# Altium footprint library WR-TBL_Rising Cage Clamp_10.16mm.PcbLib: 81 footprints (part 4 of 6)
Each footprint in its own frame and in the unit in brackets; x right, y up, seen from the top. Pads: shape width x height; smd on the part's side, far side on the other; paste and mask are expansions set on the pad; w line width, h text height; cw(c..) or ccw(c..) is an arc to the next point about the centre after c.
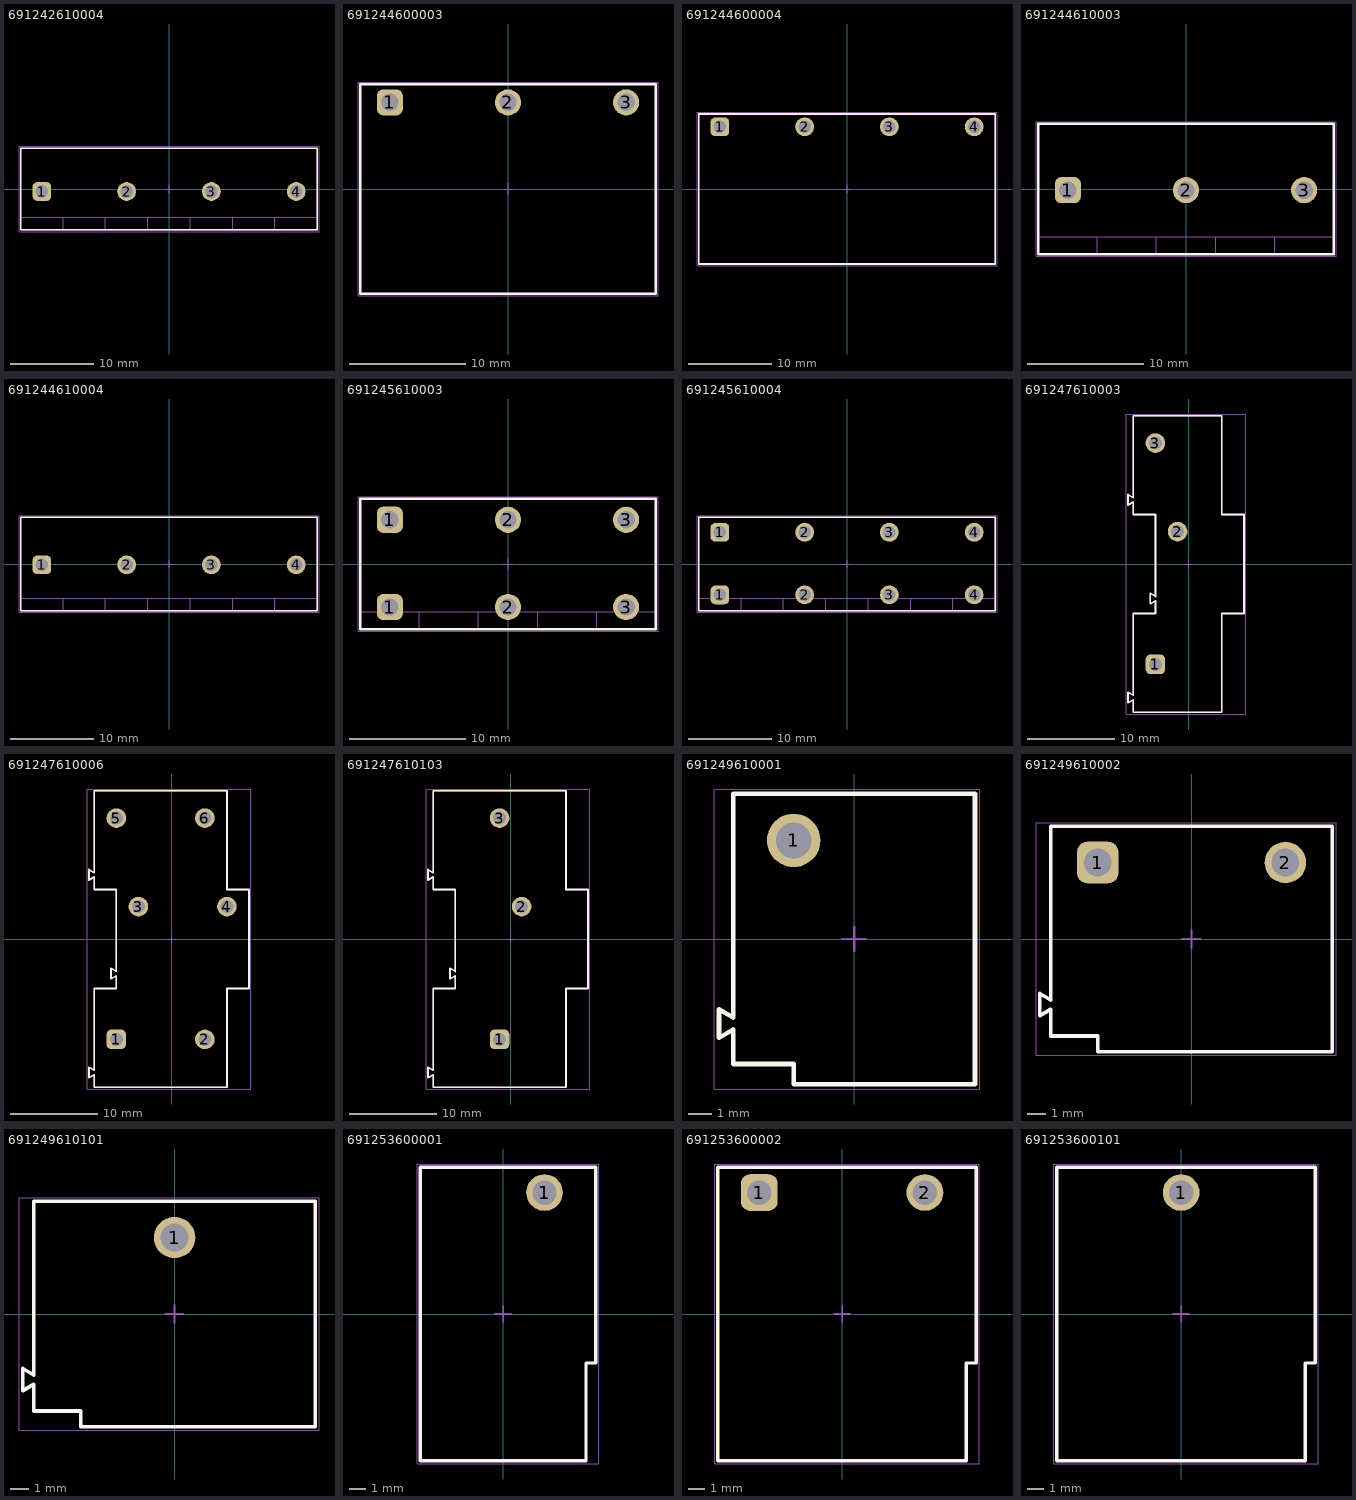
[diagram p3: the footprints below, top view; thin cyan lines are the x and y axes]

## 691242610004 [mm] "Serie 2426 - 10.16 mm _ 4 pins"
height 13.8
pads (4):
  rrect50% 2.25x2.25 hole 1.5: 1(-15.24,-0.3)
  round 2.25 hole 1.5: 2(-5.08,-0.3) 3(5.08,-0.3) 4(15.24,-0.3)
Top Overlay:
  lines w0.2: -17.78,-4.9 -17.78,4.9 17.78,4.9 17.78,-4.9 -17.78,-4.9
Top Assembly:
  lines w0.1: -17.78,-3.4 17.78,-3.4 ; -12.7,-4.9 -12.7,-3.4 ; -7.62,-4.9 -7.62,-3.4 ; -2.54,-4.9 -2.54,-3.4 ; 2.54,-4.9 2.54,-3.4 ; 7.62,-4.9 7.62,-3.4 ; 12.7,-4.9 12.7,-3.4 ; -17.78,-4.9 17.78,-4.9 17.78,4.9 -17.78,4.9 -17.78,-4.9
Top Designator:
  text ".Designator" at -3.647,-0.357 h1
Top 3D Body:
  lines w0.1: -17.78,-3.4 17.78,-3.4 ; -12.7,-4.9 -12.7,-3.4 ; -7.62,-4.9 -7.62,-3.4 ; -2.54,-4.9 -2.54,-3.4 ; 2.54,-4.9 2.54,-3.4 ; 7.62,-4.9 7.62,-3.4 ; 12.7,-4.9 12.7,-3.4 ; -17.78,-4.9 -17.78,4.9 17.78,4.9 17.78,-4.9 -17.78,-4.9
Top Courtyard:
  lines w0.05: -17.98,-5.1 -17.98,5.1 17.98,5.1 17.98,-5.1 -17.98,-5.1
Top Component Center:
  lines w0.1: -0.5,0 0.5,0 ; 0,-0.5 0,0.5
3D body "691242610004.stp": height 13.9, standoff -3.4, extent -17.78,-4.9 17.78,4.9

## 691244600003 [mm] "Serie 2446 - 10.16 mm _ 3 pins"
height 11.2
pads (3):
  rrect50% 2.25x2.25 hole 1.5: 1(-10.16,7.45)
  round 2.25 hole 1.5: 2(0,7.45) 3(10.16,7.45)
Top Overlay:
  lines w0.2: -12.7,-9 -12.7,9 12.7,9 12.7,-9 -12.7,-9
Top Assembly:
  lines w0.1: -12.7,-9 12.7,-9 12.7,9 -12.7,9 -12.7,-9
Top Designator:
  text ".Designator" at -3.647,-0.357 h1
Top 3D Body:
  lines w0.1: -12.7,-9 -12.7,9 12.7,9 12.7,-9 -12.7,-9
Top Courtyard:
  lines w0.05: -12.9,-9.2 12.9,-9.2 12.9,9.2 -12.9,9.2 -12.9,-9.2
Top Component Center:
  lines w0.1: -0.5,0 0.5,0 ; 0,-0.5 0,0.5
3D body "691244600003.stp": height 11.3, standoff -3.9, extent -12.7,-8.95 12.7,9.05

## 691244600004 [mm] "Serie 2446 - 10.16 mm _ 4 pins"
height 11.2
pads (4):
  rrect50% 2.25x2.25 hole 1.5: 1(-15.24,7.45)
  round 2.25 hole 1.5: 2(-5.08,7.45) 3(5.08,7.45) 4(15.24,7.45)
Top Overlay:
  lines w0.2: -17.78,-9 -17.78,9 17.78,9 17.78,-9 -17.78,-9
Top Assembly:
  lines w0.1: -17.78,-9 17.78,-9 17.78,9 -17.78,9 -17.78,-9
Top Designator:
  text ".Designator" at -3.647,-0.357 h1
Top 3D Body:
  lines w0.1: -17.78,-9 -17.78,9 17.78,9 17.78,-9 -17.78,-9
Top Courtyard:
  lines w0.05: -17.98,-9.2 17.98,-9.2 17.98,9.2 -17.98,9.2 -17.98,-9.2
Top Component Center:
  lines w0.1: -0.5,0 0.5,0 ; 0,-0.5 0,0.5
3D body "691244600004.stp": height 11.3, standoff -3.9, extent -17.78,-8.95 17.78,9.05

## 691244610003 [mm] "Serie 2446 - 10.16 mm _ 3 pins"
height 18
pads (3):
  rrect50% 2.25x2.25 hole 1.5: 1(-10.16,-0.1)
  round 2.25 hole 1.5: 2(0,-0.1) 3(10.16,-0.1)
Top Overlay:
  lines w0.2: -12.7,-5.6 -12.7,5.6 12.7,5.6 12.7,-5.6 -12.7,-5.6
Top Assembly:
  lines w0.1: -12.7,-4.1 12.7,-4.1 ; -7.62,-5.6 -7.62,-4.1 ; -2.54,-5.6 -2.54,-4.1 ; 2.54,-5.6 2.54,-4.1 ; 7.62,-5.6 7.62,-4.1 ; -12.7,-5.6 12.7,-5.6 12.7,5.6 -12.7,5.6 -12.7,-5.6
Top Designator:
  text ".Designator" at -3.647,-0.357 h1
Top 3D Body:
  lines w0.1: -12.7,-4.1 12.7,-4.1 ; -7.62,-5.6 -7.62,-4.1 ; -2.54,-5.6 -2.54,-4.1 ; 2.54,-5.6 2.54,-4.1 ; 7.62,-5.6 7.62,-4.1 ; -12.7,-5.6 -12.7,5.6 12.7,5.6 12.7,-5.6 -12.7,-5.6
Top Courtyard:
  lines w0.05: -12.9,-5.8 -12.9,5.8 12.9,5.8 12.9,-5.8 -12.9,-5.8
Top Component Center:
  lines w0.1: -0.5,0 0.5,0 ; 0,-0.5 0,0.5
3D body "691244610003.stp": height 18.1, standoff -3.9, extent -12.68,-5.59 12.72,5.61

## 691244610004 [mm] "Serie 2446 - 10.16 mm _ 4 pins"
height 18
pads (4):
  rrect50% 2.25x2.25 hole 1.5: 1(-15.24,-0.1)
  round 2.25 hole 1.5: 2(-5.08,-0.1) 3(5.08,-0.1) 4(15.24,-0.1)
Top Overlay:
  lines w0.2: -17.78,-5.6 -17.78,5.6 17.78,5.6 17.78,-5.6 -17.78,-5.6
Top Assembly:
  lines w0.1: -17.78,-4.1 17.78,-4.1 ; -12.7,-5.6 -12.7,-4.1 ; -7.62,-5.6 -7.62,-4.1 ; -2.54,-5.6 -2.54,-4.1 ; 2.54,-5.6 2.54,-4.1 ; 7.62,-5.6 7.62,-4.1 ; 12.7,-5.6 12.7,-4.1 ; -17.78,-5.6 17.78,-5.6 17.78,5.6 -17.78,5.6 -17.78,-5.6
Top Designator:
  text ".Designator" at -3.647,-0.357 h1
Top 3D Body:
  lines w0.1: -17.78,-4.1 17.78,-4.1 ; -12.7,-5.6 -12.7,-4.1 ; -7.62,-5.6 -7.62,-4.1 ; -2.54,-5.6 -2.54,-4.1 ; 2.54,-5.6 2.54,-4.1 ; 7.62,-5.6 7.62,-4.1 ; 12.7,-5.6 12.7,-4.1 ; -17.78,-5.6 -17.78,5.6 17.78,5.6 17.78,-5.6 -17.78,-5.6
Top Courtyard:
  lines w0.05: -17.98,-5.8 -17.98,5.8 17.98,5.8 17.98,-5.8 -17.98,-5.8
Top Component Center:
  lines w0.1: -0.5,0 0.5,0 ; 0,-0.5 0,0.5
3D body "691244610004.stp": height 18.1, standoff -3.9, extent -17.78,-5.6 17.78,5.6

## 691245610003 [mm] "Serie 2456-10.16mm Horizontal Cable Entry with Rising Cage Clamp, 3 pins"
height 18
pads (6):
  rrect50% 2.25x2.25 hole 1.5: 1(-10.16,-3.7) 1(-10.16,3.8)
  round 2.25 hole 1.5: 2(0,-3.7) 2(0,3.8) 3(10.16,-3.7) 3(10.16,3.8)
Top Overlay:
  lines w0.2: -12.7,-5.6 -12.7,5.6 12.7,5.6 12.7,-5.6 -12.7,-5.6
Top Assembly:
  lines w0.1: -12.7,-4.1 12.7,-4.1 ; -7.62,-5.6 -7.62,-4.1 ; -2.54,-5.6 -2.54,-4.1 ; 2.54,-5.6 2.54,-4.1 ; 7.62,-5.6 7.62,-4.1 ; -12.7,-5.6 12.7,-5.6 12.7,5.6 -12.7,5.6 -12.7,-5.6
Top Designator:
  text ".Designator" at -3.647,-0.357 h1
Top 3D Body:
  lines w0.1: -12.7,-4.1 12.7,-4.1 ; -7.62,-5.6 -7.62,-4.1 ; -2.54,-5.6 -2.54,-4.1 ; 2.54,-5.6 2.54,-4.1 ; 7.62,-5.6 7.62,-4.1 ; -12.7,-5.6 -12.7,5.6 12.7,5.6 12.7,-5.6 -12.7,-5.6
Top Courtyard:
  lines w0.05: -12.9,-5.8 -12.9,5.8 12.9,5.8 12.9,-5.8 -12.9,-5.8
Top Component Center:
  lines w0.1: -0.5,0 0.5,0 ; 0,-0.5 0,0.5
3D body "691245610003.stp": height 18.02, standoff -3.48, extent -12.7,-5.6 12.7,5.6

## 691245610004 [mm] "Serie 2456-10.16mm Horizontal Cable Entry with Rising Cage Clamp, 4 pins"
height 18
pads (8):
  rrect50% 2.25x2.25 hole 1.5: 1(-15.24,-3.7) 1(-15.24,3.8)
  round 2.25 hole 1.5: 2(-5.08,-3.7) 2(-5.08,3.8) 3(5.08,-3.7) 3(5.08,3.8) 4(15.24,-3.7) 4(15.24,3.8)
Top Overlay:
  lines w0.2: -17.78,-5.6 17.78,-5.6 17.78,5.6 -17.78,5.6 -17.78,-5.6
Top Assembly:
  lines w0.1: -17.78,-4.1 17.78,-4.1 ; -12.7,-5.6 -12.7,-4.1 ; -7.62,-5.6 -7.62,-4.1 ; -2.54,-5.6 -2.54,-4.1 ; 2.54,-5.6 2.54,-4.1 ; 7.62,-5.6 7.62,-4.1 ; 12.7,-5.6 12.7,-4.1 ; -17.78,-5.6 -17.78,5.6 17.78,5.6 17.78,-5.6 -17.78,-5.6
Top Designator:
  text ".Designator" at -3.647,-0.357 h1
Top 3D Body:
  lines w0.1: -17.78,-4.1 17.78,-4.1 ; -12.7,-5.6 -12.7,-4.1 ; -7.62,-5.6 -7.62,-4.1 ; -2.54,-5.6 -2.54,-4.1 ; 2.54,-5.6 2.54,-4.1 ; 7.62,-5.6 7.62,-4.1 ; 12.7,-5.6 12.7,-4.1 ; -17.78,-5.6 17.78,-5.6 17.78,5.6 -17.78,5.6 -17.78,-5.6
Top Courtyard:
  lines w0.05: -17.98,-5.8 17.98,-5.8 17.98,5.8 -17.98,5.8 -17.98,-5.8
Top Component Center:
  lines w0.1: -0.5,0 0.5,0 ; 0,-0.5 0,0.5
3D body "691245610004.stp": height 18.02, standoff -3.48, extent -17.78,-5.6 17.78,5.6

## 691247610003 [mm] "10.16mm Horizontal Cable Entry with Rising Cage Clamp, 03p"
height 45
pads (3):
  rrect50% 2.25x2.25 hole 1.5: 1(-3.81,-11.525)
  round 2.25 hole 1.5: 2(-1.27,3.715) 3(-3.81,13.875)
Top Overlay:
  lines w0.2: -6.35,17.025 -6.35,7.63 -6.95,7.975 -6.95,6.775 -6.35,7.12 -6.35,5.675 -3.81,5.675 -3.81,-3.72 -4.41,-3.375 -4.41,-4.575 -3.81,-4.23 -3.81,-5.675 -6.35,-5.675 -6.35,-15.07 -6.95,-14.725 -6.95,-15.925 -6.35,-15.58 -6.35,-17.025 3.81,-17.025 3.81,-5.675 6.35,-5.675 6.35,5.675 3.81,5.675 3.81,17.025 -6.35,17.025
Top Assembly:
  lines w0.1: -6.35,17.025 -6.35,7.63 -6.95,7.975 -6.95,6.775 -6.35,7.12 -6.35,5.675 -3.81,5.675 -3.81,-3.72 -4.41,-3.375 -4.41,-4.575 -3.81,-4.23 -3.81,-5.675 -6.35,-5.675 -6.35,-15.07 -6.95,-14.725 -6.95,-15.925 -6.35,-15.58 -6.35,-17.025 3.81,-17.025 3.81,-5.675 6.35,-5.675 6.35,5.675 3.81,5.675 3.81,17.025 -6.35,17.025
Top Designator:
  text ".Designator" at -3.647,-0.357 h1
Top 3D Body:
  lines w0.1: -6.35,17.025 -6.35,7.63 -6.95,7.975 -6.95,6.775 -6.35,7.12 -6.35,5.675 -3.81,5.675 -3.81,-3.72 -4.41,-3.375 -4.41,-4.575 -3.81,-4.23 -3.81,-5.675 -6.35,-5.675 -6.35,-15.07 -6.95,-14.725 -6.95,-15.925 -6.35,-15.58 -6.35,-17.025 3.81,-17.025 3.81,-5.675 6.35,-5.675 6.35,5.675 3.81,5.675 3.81,17.025 -6.35,17.025
Top Courtyard:
  lines w0.05: -7.15,-17.225 6.55,-17.225 6.55,17.225 -7.15,17.225 -7.15,-17.225
Top Component Center:
  lines w0.1: -0.5,0 0.5,0 ; 0,-0.5 0,0.5
3D body "691247610003.stp": height 45.1, standoff -3.9, extent -6.95,-17.025 6.35,17.025

## 691247610006 [mm] "10.16mm Horizontal Cable Entry with Rising Cage Clamp, 06p"
height 45
pads (6):
  rrect50% 2.25x2.25 hole 1.5: 1(-6.35,-11.525)
  round 2.25 hole 1.5: 2(3.81,-11.525) 3(-3.81,3.715) 4(6.35,3.715) 5(-6.35,13.875) 6(3.81,13.875)
Top Overlay:
  lines w0.2: -8.89,17.025 -8.89,7.63 -9.49,7.975 -9.49,6.775 -8.89,7.12 -8.89,5.675 -6.35,5.675 -6.35,-3.72 -6.95,-3.375 -6.95,-4.575 -6.35,-4.23 -6.35,-5.675 -8.89,-5.675 -8.89,-15.07 -9.49,-14.725 -9.49,-15.925 -8.89,-15.58 -8.89,-17.025 6.35,-17.025 6.35,-5.675 8.89,-5.675 8.89,5.675 6.35,5.675 6.35,17.025 -8.89,17.025
Top Assembly:
  lines w0.1: -8.89,17.025 -8.89,7.63 -9.49,7.975 -9.49,6.775 -8.89,7.12 -8.89,5.675 -6.35,5.675 -6.35,-3.72 -6.95,-3.375 -6.95,-4.575 -6.35,-4.23 -6.35,-5.675 -8.89,-5.675 -8.89,-15.07 -9.49,-14.725 -9.49,-15.925 -8.89,-15.58 -8.89,-17.025 6.35,-17.025 6.35,-5.675 8.89,-5.675 8.89,5.675 6.35,5.675 6.35,17.025 -8.89,17.025
Top Designator:
  text ".Designator" at -3.647,-0.357 h1
Top 3D Body:
  lines w0.1: -8.89,17.025 -8.89,7.63 -9.49,7.975 -9.49,6.775 -8.89,7.12 -8.89,5.675 -6.35,5.675 -6.35,-3.72 -6.95,-3.375 -6.95,-4.575 -6.35,-4.23 -6.35,-5.675 -8.89,-5.675 -8.89,-15.07 -9.49,-14.725 -9.49,-15.925 -8.89,-15.58 -8.89,-17.025 6.35,-17.025 6.35,-5.675 8.89,-5.675 8.89,5.675 6.35,5.675 6.35,17.025 -8.89,17.025
Top Courtyard:
  lines w0.05: -9.69,-17.225 -9.69,17.225 9.09,17.225 9.09,-17.225 -9.69,-17.225
Top Component Center:
  lines w0.1: -0.5,0 0.5,0 ; 0,-0.5 0,0.5
3D body "691247610006.stp": height 45.1, standoff -3.9, extent -9.49,-17.025 8.89,17.025

## 691247610103 [mm] "10.16mm Horizontal Cable Entry with Rising Cage Clamp, 03p"
height 45
pads (3):
  rrect50% 2.25x2.25 hole 1.5: 1(-1.27,-11.525)
  round 2.25 hole 1.5: 2(1.27,3.715) 3(-1.27,13.875)
Top Overlay:
  lines w0.2: -8.89,17.025 -8.89,7.63 -9.49,7.975 -9.49,6.775 -8.89,7.12 -8.89,5.675 -6.35,5.675 -6.35,-3.72 -6.95,-3.375 -6.95,-4.575 -6.35,-4.23 -6.35,-5.675 -8.89,-5.675 -8.89,-15.07 -9.49,-14.725 -9.49,-15.925 -8.89,-15.58 -8.89,-17.025 6.35,-17.025 6.35,-5.675 8.89,-5.675 8.89,5.675 6.35,5.675 6.35,17.025 -8.89,17.025
Top Assembly:
  lines w0.1: -8.89,17.025 -8.89,7.63 -9.49,7.975 -9.49,6.775 -8.89,7.12 -8.89,5.675 -6.35,5.675 -6.35,-3.72 -6.95,-3.375 -6.95,-4.575 -6.35,-4.23 -6.35,-5.675 -8.89,-5.675 -8.89,-15.07 -9.49,-14.725 -9.49,-15.925 -8.89,-15.58 -8.89,-17.025 6.35,-17.025 6.35,-5.675 8.89,-5.675 8.89,5.675 6.35,5.675 6.35,17.025 -8.89,17.025
Top Designator:
  text ".Designator" at -3.647,-0.357 h1
Top 3D Body:
  lines w0.1: -8.89,17.025 -8.89,7.63 -9.49,7.975 -9.49,6.775 -8.89,7.12 -8.89,5.675 -6.35,5.675 -6.35,-3.72 -6.95,-3.375 -6.95,-4.575 -6.35,-4.23 -6.35,-5.675 -8.89,-5.675 -8.89,-15.07 -9.49,-14.725 -9.49,-15.925 -8.89,-15.58 -8.89,-17.025 6.35,-17.025 6.35,-5.675 8.89,-5.675 8.89,5.675 6.35,5.675 6.35,17.025 -8.89,17.025
Top Courtyard:
  lines w0.05: -9.69,-17.225 9.09,-17.225 9.09,17.225 -9.69,17.225 -9.69,-17.225
Top Component Center:
  lines w0.1: -0.5,0 0.5,0 ; 0,-0.5 0,0.5
3D body "691247610103.stp": height 45.1, standoff -3.9, extent -9.49,-17.025 8.89,17.025

## 691249610001 [mm] "10.16mm Horizontal Cable Entry with Rising Cage Clamp, 01p"
height 31.5
pads (1):
  round 2.25 hole 1.5: 1(-2.54,4.14)
Top Overlay:
  lines w0.2: -5.68,-4.152 -5.08,-3.8 -5.08,-5.25 -2.54,-5.25 -2.54,-6.1 5.08,-6.1 5.08,6.1 -5.08,6.1 -5.08,-3.302 -5.68,-2.95 -5.68,-4.152
Top Assembly:
  lines w0.1: -5.68,-4.152 -5.68,-2.95 -5.08,-3.302 -5.08,6.1 5.08,6.1 5.08,-6.1 -2.54,-6.1 -2.54,-5.25 -5.08,-5.25 -5.08,-3.8 -5.68,-4.152
Top Designator:
  text ".Designator" at -3.647,-0.357 h1
Top 3D Body:
  lines w0.1: -5.68,-4.152 -5.08,-3.8 -5.08,-5.25 -2.54,-5.25 -2.54,-6.1 5.08,-6.1 5.08,6.1 -5.08,6.1 -5.08,-3.302 -5.68,-2.95 -5.68,-4.152
Top Courtyard:
  lines w0.05: -5.88,-6.3 5.28,-6.3 5.28,6.3 -5.88,6.3 -5.88,-6.3
Top Component Center:
  lines w0.1: -0.5,0 0.5,0 ; 0,-0.5 0,0.5
3D body "691249610001.stp": height 31.6, standoff -3.9, extent -5.68,-6.1 5.08,6.1

## 691249610002 [mm] "10.16mm Horizontal Cable Entry with Rising Cage Clamp, 02p"
height 31.5
pads (2):
  rrect50% 2.25x2.25 hole 1.5: 1(-5.08,4.14)
  round 2.25 hole 1.5: 2(5.08,4.14)
Top Overlay:
  lines w0.2: -8.22,-4.152 -7.62,-3.8 -7.62,-5.25 -5.08,-5.25 -5.08,-6.1 7.62,-6.1 7.62,6.1 -7.62,6.1 -7.62,-3.302 -8.22,-2.95 -8.22,-4.152
Top Assembly:
  lines w0.1: -8.22,-4.152 -8.22,-2.95 -7.62,-3.302 -7.62,6.1 7.62,6.1 7.62,-6.1 -5.08,-6.1 -5.08,-5.25 -7.62,-5.25 -7.62,-3.8 -8.22,-4.152
Top Designator:
  text ".Designator" at -3.647,-0.357 h1
Top 3D Body:
  lines w0.1: -8.22,-4.152 -7.62,-3.8 -7.62,-5.25 -5.08,-5.25 -5.08,-6.1 7.62,-6.1 7.62,6.1 -7.62,6.1 -7.62,-3.302 -8.22,-2.95 -8.22,-4.152
Top Courtyard:
  lines w0.05: -8.42,-6.3 7.82,-6.3 7.82,6.3 -8.42,6.3 -8.42,-6.3
Top Component Center:
  lines w0.1: -0.5,0 0.5,0 ; 0,-0.5 0,0.5
3D body "691249610002.stp": height 31.6, standoff -3.9, extent -8.22,-6.1 7.62,6.1

## 691249610101 [mm] "10.16mm Horizontal Cable Entry with Rising Cage Clamp, 01p"
height 31.5
pads (1):
  round 2.25 hole 1.5: 1(0,4.14)
Top Overlay:
  lines w0.2: -8.22,-4.152 -8.22,-2.95 -7.62,-3.302 -7.62,6.1 7.62,6.1 7.62,-6.1 -5.08,-6.1 -5.08,-5.25 -7.62,-5.25 -7.62,-3.8 -8.22,-4.152
Top Assembly:
  lines w0.1: -8.22,-4.152 -7.62,-3.8 -7.62,-5.25 -5.08,-5.25 -5.08,-6.1 7.62,-6.1 7.62,6.1 -7.62,6.1 -7.62,-3.302 -8.22,-2.95 -8.22,-4.152
Top Designator:
  text ".Designator" at -3.647,-0.357 h1
Top 3D Body:
  lines w0.1: -8.22,-4.152 -8.22,-2.95 -7.62,-3.302 -7.62,6.1 7.62,6.1 7.62,-6.1 -5.08,-6.1 -5.08,-5.25 -7.62,-5.25 -7.62,-3.8 -8.22,-4.152
Top Courtyard:
  lines w0.05: -8.42,-6.3 -8.42,6.3 7.82,6.3 7.82,-6.3 -8.42,-6.3
Top Component Center:
  lines w0.1: -0.5,0 0.5,0 ; 0,-0.5 0,0.5
3D body "691249610101.stp": height 31.6, standoff -3.9, extent -8.22,-6.1 7.62,6.1

## 691253600001 [mm] "Serie 2536 - 10.16 mm _ 1 pin"
height 11.2
pads (1):
  round 2.25 hole 1.5: 1(2.54,7.45)
Top Overlay:
  lines w0.2: -5.08,-9 5.08,-9 5.08,-3 5.68,-3 5.68,9 -5.08,9 -5.08,-9
Top Assembly:
  lines w0.1: -5.08,-9 -5.08,9 5.68,9 5.68,-3 5.08,-3 5.08,-9 -5.08,-9
Top Designator:
  text ".Designator" at -3.647,-0.357 h1
Top 3D Body:
  lines w0.1: -5.08,-9 5.08,-9 5.08,-3 5.68,-3 5.68,9 -5.08,9 -5.08,-9
Top Courtyard:
  lines w0.05: -5.28,-9.2 -5.28,9.2 5.88,9.2 5.88,-9.2 -5.28,-9.2
Top Component Center:
  lines w0.1: -0.5,0 0.5,0 ; 0,-0.5 0,0.5
3D body "691253600001.stp": height 11.35, standoff -3.85, extent -5.06,-8.95 5.7,9.05

## 691253600002 [mm] "Serie 2536 - 10.16 mm _ 2 pins"
height 11.2
pads (2):
  rrect50% 2.25x2.25 hole 1.5: 1(-5.08,7.45)
  round 2.25 hole 1.5: 2(5.08,7.45)
Top Overlay:
  lines w0.2: -7.62,-9 -7.62,9 8.22,9 8.22,-3 7.62,-3 7.62,-9 -7.62,-9
Top Assembly:
  lines w0.1: -7.62,-9 7.62,-9 7.62,-3 8.22,-3 8.22,9 -7.62,9 -7.62,-9
Top Designator:
  text ".Designator" at -3.647,-0.357 h1
Top 3D Body:
  lines w0.1: -7.62,-9 -7.62,9 8.22,9 8.22,-3 7.62,-3 7.62,-9 -7.62,-9
Top Courtyard:
  lines w0.05: -7.82,-9.2 8.42,-9.2 8.42,9.2 -7.82,9.2 -7.82,-9.2
Top Component Center:
  lines w0.1: -0.5,0 0.5,0 ; 0,-0.5 0,0.5
3D body "691253600002.stp": height 11.35, standoff -3.85, extent -7.6,-8.95 8.24,9.05

## 691253600101 [mm] "Serie 2536 - 10.16 mm _ 1 pin"
height 11.2
pads (1):
  round 2.25 hole 1.5: 1(0,7.45)
Top Overlay:
  lines w0.2: -7.62,-9 -7.62,9 8.22,9 8.22,-3 7.62,-3 7.62,-9 -7.62,-9
Top Assembly:
  lines w0.1: -7.62,-9 7.62,-9 7.62,-3 8.22,-3 8.22,9 -7.62,9 -7.62,-9
Top Designator:
  text ".Designator" at -3.647,-0.357 h1
Top 3D Body:
  lines w0.1: -7.62,-9 -7.62,9 8.22,9 8.22,-3 7.62,-3 7.62,-9 -7.62,-9
Top Courtyard:
  lines w0.05: -7.82,-9.2 8.42,-9.2 8.42,9.2 -7.82,9.2 -7.82,-9.2
Top Component Center:
  lines w0.1: -0.5,0 0.5,0 ; 0,-0.5 0,0.5
3D body "691253600101.stp": height 11.35, standoff -3.85, extent -7.62,-9 8.22,9